# Altium footprint library Control_Module_Footprints.PcbLib: 19 footprints (part 2 of 2)
Each footprint in its own frame and in the unit in brackets; x right, y up, seen from the top. Pads: shape width x height; smd on the part's side, far side on the other; paste and mask are expansions set on the pad; w line width, h text height; cw(c..) or ccw(c..) is an arc to the next point about the centre after c.
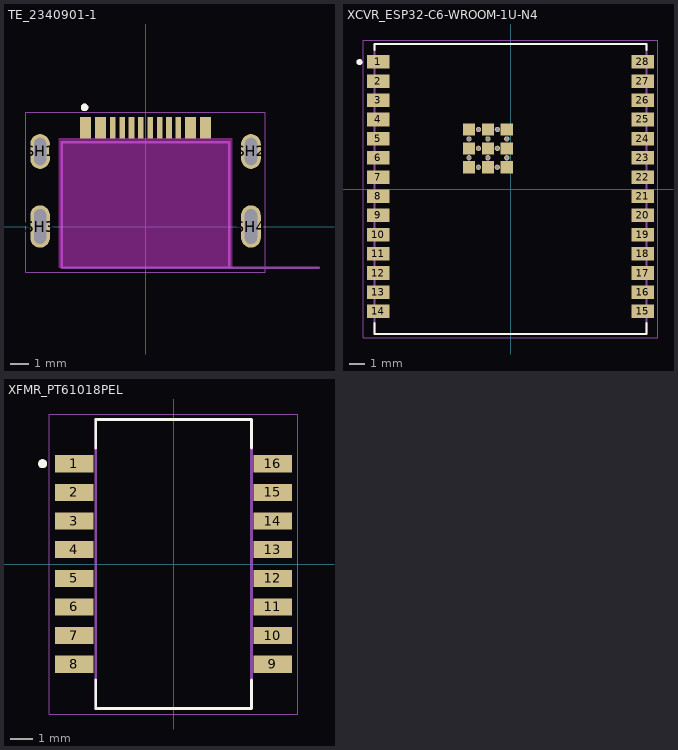
[diagram p1: the footprints below, top view; thin cyan lines are the x and y axes]

## TE_2340901-1 [mm]
height 1.58
pads (16):
  rect 0.6x1.15 smd: A1/B12(-3.2,5.275) A4/B9(-2.4,5.275) B1/A12(3.2,5.275) B4/AP(2.4,5.275)
  rect 0.3x1.15 smd: A5(-1.25,5.275) A6(-0.25,5.275) A7(0.25,5.275) A8(1.25,5.275) B5(1.75,5.275) B6(0.75,5.275) B7(-0.75,5.275) B8(-1.75,5.275)
  oval 1.05x1.85 hole 0.65 slot 1.45 at 90 deg: SH1(-5.62,4) SH2(5.62,4)
  oval 1.05x2.25 hole 0.65 slot 1.85 at 90 deg: SH3(-5.62,0) SH4(5.62,0)
Top Overlay:
  circle w0.2: c-3.25,6.35 r0.1
Keep-Out Layer:
  board cut-out: -4.62,-2.2 -4.62,4.7 4.62,4.7 4.62,-2.2
Mechanical 13:
  circle w0.2: c-3.25,6.35 r0.1
  lines w0.127: 9.25,-2.2 4.47,-2.2 ; 4.47,-2.2 4.47,4.5 -4.47,4.5 -4.47,-2.2 4.47,-2.2
  text "PCB EDGE" at 6.5,-2 h1.02
Mechanical 15:
  lines w0.05: -6.395,-2.45 6.395,-2.45 6.395,6.1 -6.395,6.1 -6.395,-2.45
3D body "step_temp.STEP": height 1.58, standoff -1.58, extent -5.77,0 5.77,7.55

## XCVR_ESP32-C6-WROOM-1U-N4 [mm]
height 3.25
pads (49):
  rect 1.5x0.9 smd: 1(-8.75,8.41) 2(-8.75,7.14) 3(-8.75,5.87) 4(-8.75,4.6) 5(-8.75,3.33) 6(-8.75,2.06) 7(-8.75,0.79) 8(-8.75,-0.48) 9(-8.75,-1.75) 10(-8.75,-3.02) 11(-8.75,-4.29) 12(-8.75,-5.56) 13(-8.75,-6.83) 14(-8.75,-8.1) 15(8.75,-8.1) 16(8.75,-6.83) 17(8.75,-5.56) 18(8.75,-4.29) 19(8.75,-3.02) 20(8.75,-1.75) 21(8.75,-0.48) 22(8.75,0.79) 23(8.75,2.06) 24(8.75,3.33) 25(8.75,4.6) 26(8.75,5.87) 27(8.75,7.14) 28(8.75,8.41)
  rect 0.8x0.8 smd: 29_1(-2.755,3.94) 29_2(-1.505,3.94) 29_3(-0.255,3.94) 29_4(-2.755,2.69) 29_5(-1.505,2.69) 29_6(-0.255,2.69) 29_7(-2.755,1.44) 29_8(-1.505,1.44) 29_9(-0.255,1.44)
  round 0.35 hole 0.25 mask+0: 30_1(-2.13,3.94) 30_2(-0.88,3.94) 30_3(-2.755,3.315) 30_4(-1.505,3.315) 30_5(-0.255,3.315) 30_6(-2.13,2.69) 30_7(-0.88,2.69) 30_8(-2.755,2.065) 30_9(-1.505,2.065) 30_10(-0.255,2.065) 30_11(-2.13,1.44) 30_12(-0.88,1.44)
Top Overlay:
  circle w0.2: c-10,8.4 r0.1
  lines w0.127: -9,-8.87 -9,-9.6 9,-9.6 9,-8.87 ; -9,9.18 -9,9.6 9,9.6 9,9.18
Mechanical 13:
  circle w0.2: c-10,8.4 r0.1
  lines w0.127: -9,-9.6 9,-9.6 9,9.6 -9,9.6 -9,-9.6
Mechanical 15:
  lines w0.05: -9.75,-9.85 -9.75,9.85 9.75,9.85 9.75,-9.85 -9.75,-9.85
3D body "step_temp.STEP": height 3.25, standoff 0, extent -9,-9.6 9,9.6

## XFMR_PT61018PEL [mm]
height 5.65
pads (16):
  rect 1.7x0.76 smd: 1(-4.4,4.445) 2(-4.4,3.175) 3(-4.4,1.905) 4(-4.4,0.635) 5(-4.4,-0.635) 6(-4.4,-1.905) 7(-4.4,-3.175) 8(-4.4,-4.445) 9(4.4,-4.445) 10(4.4,-3.175) 11(4.4,-1.905) 12(4.4,-0.635) 13(4.4,0.635) 14(4.4,1.905) 15(4.4,3.175) 16(4.4,4.445)
Top Overlay:
  circle w0.2: c-5.8,4.445 r0.1
  lines w0.127: -3.45,-5.145 -3.45,-6.4 3.45,-6.4 3.45,-5.145 ; -3.45,5.145 -3.45,6.4 3.45,6.4 3.45,5.145
Mechanical 13:
  circle w0.2: c-5.8,4.445 r0.1
  lines w0.127: -3.45,-6.4 3.45,-6.4 3.45,6.4 -3.45,6.4 -3.45,-6.4
Mechanical 15:
  lines w0.05: -5.5,-6.65 5.5,-6.65 5.5,6.65 -5.5,6.65 -5.5,-6.65
3D body "step_temp.STEP": height 5.65, standoff 0, extent -4.65,-6.4 4.65,6.4